# EAGLE library part 2P3T (library Traficon)
SLIDING SWITCH distributor: probably D'TRON
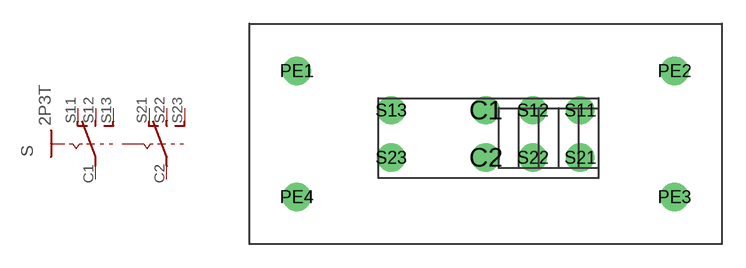
[diagram p116: symbol with the pads of 2P3T; footprint 2P3T]

Designator prefix S

## 2P3T  [2P3T]
C1  S1  pas
C2  S2  pas
S11  S11  pas
S12  S12  pas
S13  S13  pas
S21  S21  pas
S22  S22  pas
S23  S23  pas

## Footprint 2P3T (pad centres in mm)
TOGGLE SWITCH distributor RS Components
drill 1.2 round: C1 3,0.5; C2 3,-2.5; PE1 -9,3; PE2 15,3; PE3 15,-5; PE4 -9,-5; S11 9,0.5; S12 6,0.5; S13 -3,0.5; S21 9,-2.5; S22 6,-2.5; S23 -3,-2.5